# EAGLE library part 6120XX21721_61202021721 (library WR-BHD)
WR-BHD 2.54 mm Male Angled Box Header KIND PROPERTIES: Pitch 2.54 mm Gender:Male MATERIAL PROPERTIES: Insulator Material:PBT Insulator Flammability Rating UL94 V-0 Insulator Color:Black Contact Material :Copper Alloy Contact Plating :Gold Contact Type: Stamped GENERAL INFORMATION: Operating Temperature:-40 °C up to +125 °C Compliance:RoHS Working Voltage: 250 V (AC) Withstanding Voltage:500 V (AC) Contact Resistance: 20 mΩ Insulation Resistance:1000 MΩ CERTIFICATION: UL Approval:E323964 PACKAGING PROPERTIES Packaging :Tray <https://www.we-online.de/katalog/media/o32888v209%20Family_WR-BHD_6120xx21721.jpg> Details see: https://www.we-online.de/katalog/en/em/BHD_2_54_MALE_ANGLED_BOX_HEADER_6120XX21721 Updated by Yingchun,Shan 2019-10-29 2019 (C) Würth Elektronik
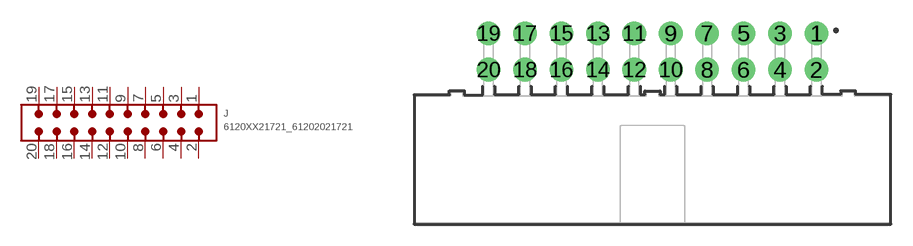
[diagram p172: symbol with the pads of 61202021721; footprint 61202021721]

Designator prefix J

## 6120XX21721_61202021721 (CONTACT-RESISTANCE: 20mOhm; DATASHEET-URL: https://www.we-online.com/redexpert/spec/61202021721?ae; GENDER: Male; IR: 3A; LENGTH: 38.14mm; MOUNT: THT; PACKAGING: Tray; PART-NUMBER: 61202021721; PINS: 20; PITCH: 2.54mm; TYPE: Angled; VALUE: 61202021721; WORKING-VOLTAGE: 250V(AC))  [61202021721]
1  1  pas
2  2  pas
3  3  pas
4  4  pas
5  5  pas
6  6  pas
7  7  pas
8  8  pas
9  9  pas
10  10  pas
11  11  pas
12  12  pas
13  13  pas
14  14  pas
15  15  pas
16  16  pas
17  17  pas
18  18  pas
19  19  pas
20  20  pas

## Footprint 61202021721 (pad centres in mm)
WR-BHD 2.54 mm Male Angled Box Header, 20 Pins
drill 1.1: 1 11.43,8.805; 2 11.43,6.265; 3 8.89,8.805; 4 8.89,6.265; 5 6.35,8.805; 6 6.35,6.265; 7 3.81,8.805; 8 3.81,6.265; 9 1.27,8.805; 10 1.27,6.265; 11 -1.27,8.805; 12 -1.27,6.265; 13 -3.81,8.805; 14 -3.81,6.265; 15 -6.35,8.805; 16 -6.35,6.265; 17 -8.89,8.805; 18 -8.89,6.265; 19 -11.43,8.805; 20 -11.43,6.265